# Altium footprint library UM1_SMD.PcbLib: 1 footprints
Each footprint in its own frame and in the unit in brackets; x right, y up, seen from the top. Pads: shape width x height; smd on the part's side, far side on the other; paste and mask are expansions set on the pad; w line width, h text height; cw(c..) or ccw(c..) is an arc to the next point about the centre after c.
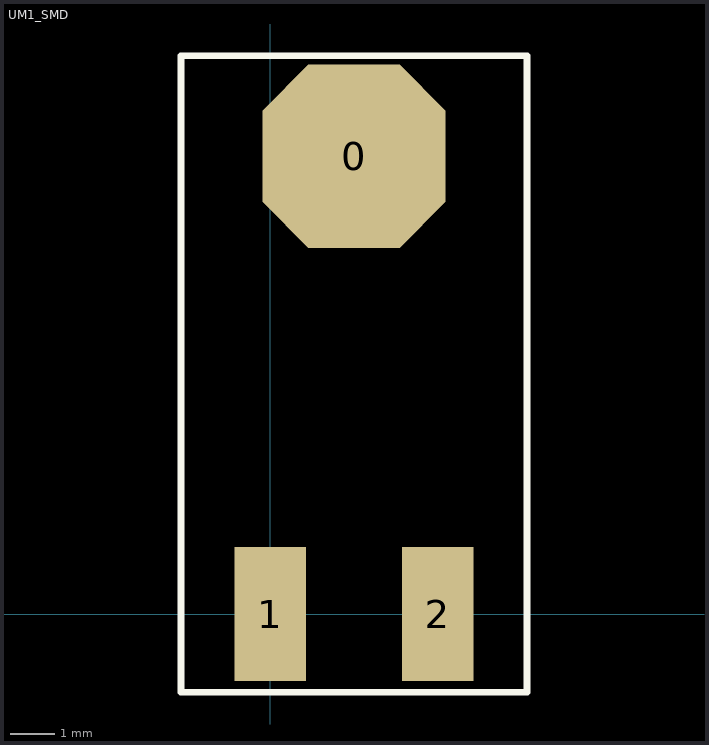
[diagram p0: the footprint, top view; thin cyan lines are the x and y axes]

## UM1_SMD [mil]
pads (3):
  oct 164x164 smd: 0(75,410)
  rect 64x120 smd: 1(0,0) 2(150,0)
TopOverlay:
  lines w6: -80,-70 -80,500 230,500 230,-70 -80,-70